# Altium footprint library CN_IDC26_918526X914.PcbLib: 1 footprints
Each footprint in its own frame and in the unit in brackets; x right, y up, seen from the top. Pads: shape width x height; smd on the part's side, far side on the other; paste and mask are expansions set on the pad; w line width, h text height; cw(c..) or ccw(c..) is an arc to the next point about the centre after c.
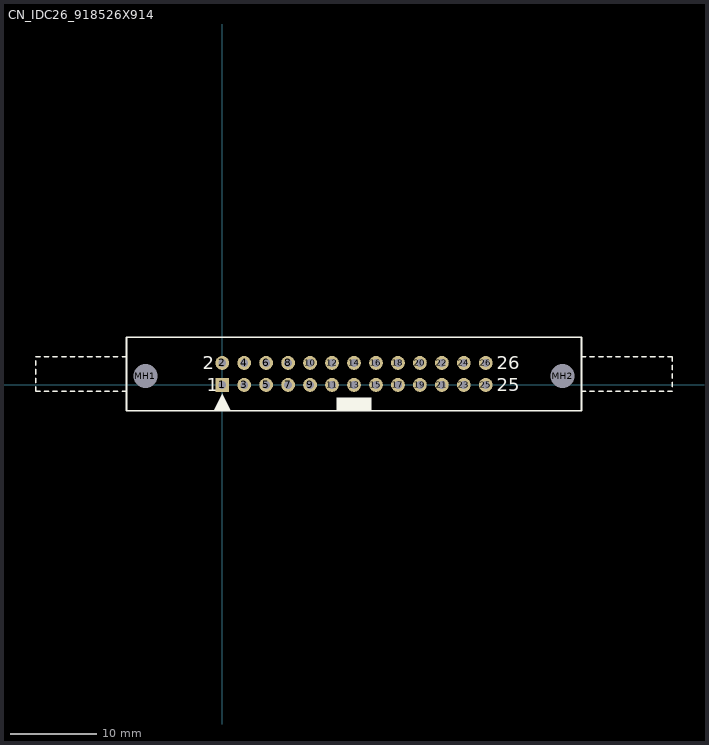
[diagram p0: the footprint, top view; thin cyan lines are the x and y axes]

## CN_IDC26_918526X914 [mm] "Connector; IDC, Thru-Hole; 26 Position; Vertical; Pitch 2.54 mm; Body 52.60 x 8.5 x 23.30 mm (LxWxH), Locking levers"
height 23.3
pads (28):
  rect 1.6x1.6 hole 0.9: 1(0,0)
  round 1.6 hole 0.9: 2(0,2.54) 3(2.54,0) 4(2.54,2.54) 5(5.08,0) 6(5.08,2.54) 7(7.62,0) 8(7.62,2.54) 9(10.16,0) 10(10.16,2.54) 11(12.7,0) 12(12.7,2.54) 13(15.24,0) 14(15.24,2.54) 15(17.78,0) 16(17.78,2.54) 17(20.32,0) 18(20.32,2.54) 19(22.86,0) 20(22.86,2.54) 21(25.4,0) 22(25.4,2.54) 23(27.94,0) 24(27.94,2.54) 25(30.48,0) 26(30.48,2.54)
  round 2.5 hole 2.8 unplated: MH1(-8.89,1.02) MH2(39.37,1.02)
Top Overlay:
  rectangle: 13.19,-2.98 17.29,-1.43
  region: -1,-3 0,-1 1,-3
  lines w0.2: -21.56,-0.23 -21.56,-0.73 -21.07,-0.73 ; -21.56,0.27 -21.56,0.77 ; -21.56,1.27 -21.56,1.77 ; -21.56,2.27 -21.56,2.77 ; -21.56,3.27 -21.07,3.27 ; -20.57,-0.73 -20.07,-0.73 ; -20.57,3.27 -20.07,3.27 ; -19.57,-0.73 -19.07,-0.73 ; -19.57,3.27 -19.07,3.27 ; -18.57,-0.73 -18.07,-0.73 ; -18.57,3.27 -18.07,3.27 ; -17.57,-0.73 -17.07,-0.73 ; -17.57,3.27 -17.07,3.27 ; -16.57,-0.73 -16.07,-0.73 ; -16.57,3.27 -16.07,3.27 ; -15.57,-0.73 -15.07,-0.73 ; -15.57,3.27 -15.07,3.27 ; -14.57,-0.73 -14.07,-0.73 ; -14.57,3.27 -14.07,3.27 ; -13.57,-0.73 -13.07,-0.73 ; -13.57,3.27 -13.07,3.27 ; -12.57,-0.73 -12.07,-0.73 ; -12.57,3.27 -12.07,3.27 ; -11.57,-0.73 -11.06,-0.73 ; -11.57,3.27 -11.06,3.27 ; 41.54,-0.73 42.04,-0.73 ; 41.54,3.27 42.04,3.27 ; 42.54,-0.73 43.04,-0.73 ; 42.54,3.27 43.04,3.27 ; 43.54,-0.73 44.04,-0.73 ; 43.54,3.27 44.04,3.27 ; 44.54,-0.73 45.04,-0.73 ; 44.54,3.27 45.04,3.27 ; 45.54,-0.73 46.04,-0.73 ; 45.54,3.27 46.04,3.27 ; 46.54,-0.73 47.04,-0.73 ; 46.54,3.27 47.04,3.27 ; 47.54,-0.73 48.04,-0.73 ; 47.54,3.27 48.04,3.27 ; 48.54,-0.73 49.04,-0.73 ; 48.54,3.27 49.04,3.27 ; 49.54,-0.73 50.04,-0.73 ; 49.54,3.27 50.04,3.27 ; 50.54,-0.73 51.04,-0.73 ; 50.54,3.27 51.04,3.27 ; 51.54,-0.73 52.04,-0.73 ; 51.54,3.27 52.04,3.27 52.04,2.77 ; 52.04,-0.23 52.04,0.27 ; 52.04,0.77 52.04,1.27 ; 52.04,1.77 52.04,2.27 ; -11.06,-2.98 -11.06,5.52 41.54,5.52 41.54,-2.98 -11.06,-2.98
  text "2" at -2.28,1.79 h1.5
  text "1" at -1.78,-0.75 h1.5
  text "26" at 31.76,1.79 h1.5
  text "25" at 31.76,-0.75 h1.5
3D body: height 25.75, standoff -3.2, extent -11.06,-2.98 41.54,5.52